# Altium footprint library eos26_motherboard_basic.PcbLib: 22 footprints (part 1 of 2)
Each footprint in its own frame and in the unit in brackets; x right, y up, seen from the top. Pads: shape width x height; smd on the part's side, far side on the other; paste and mask are expansions set on the pad; w line width, h text height; cw(c..) or ccw(c..) is an arc to the next point about the centre after c.
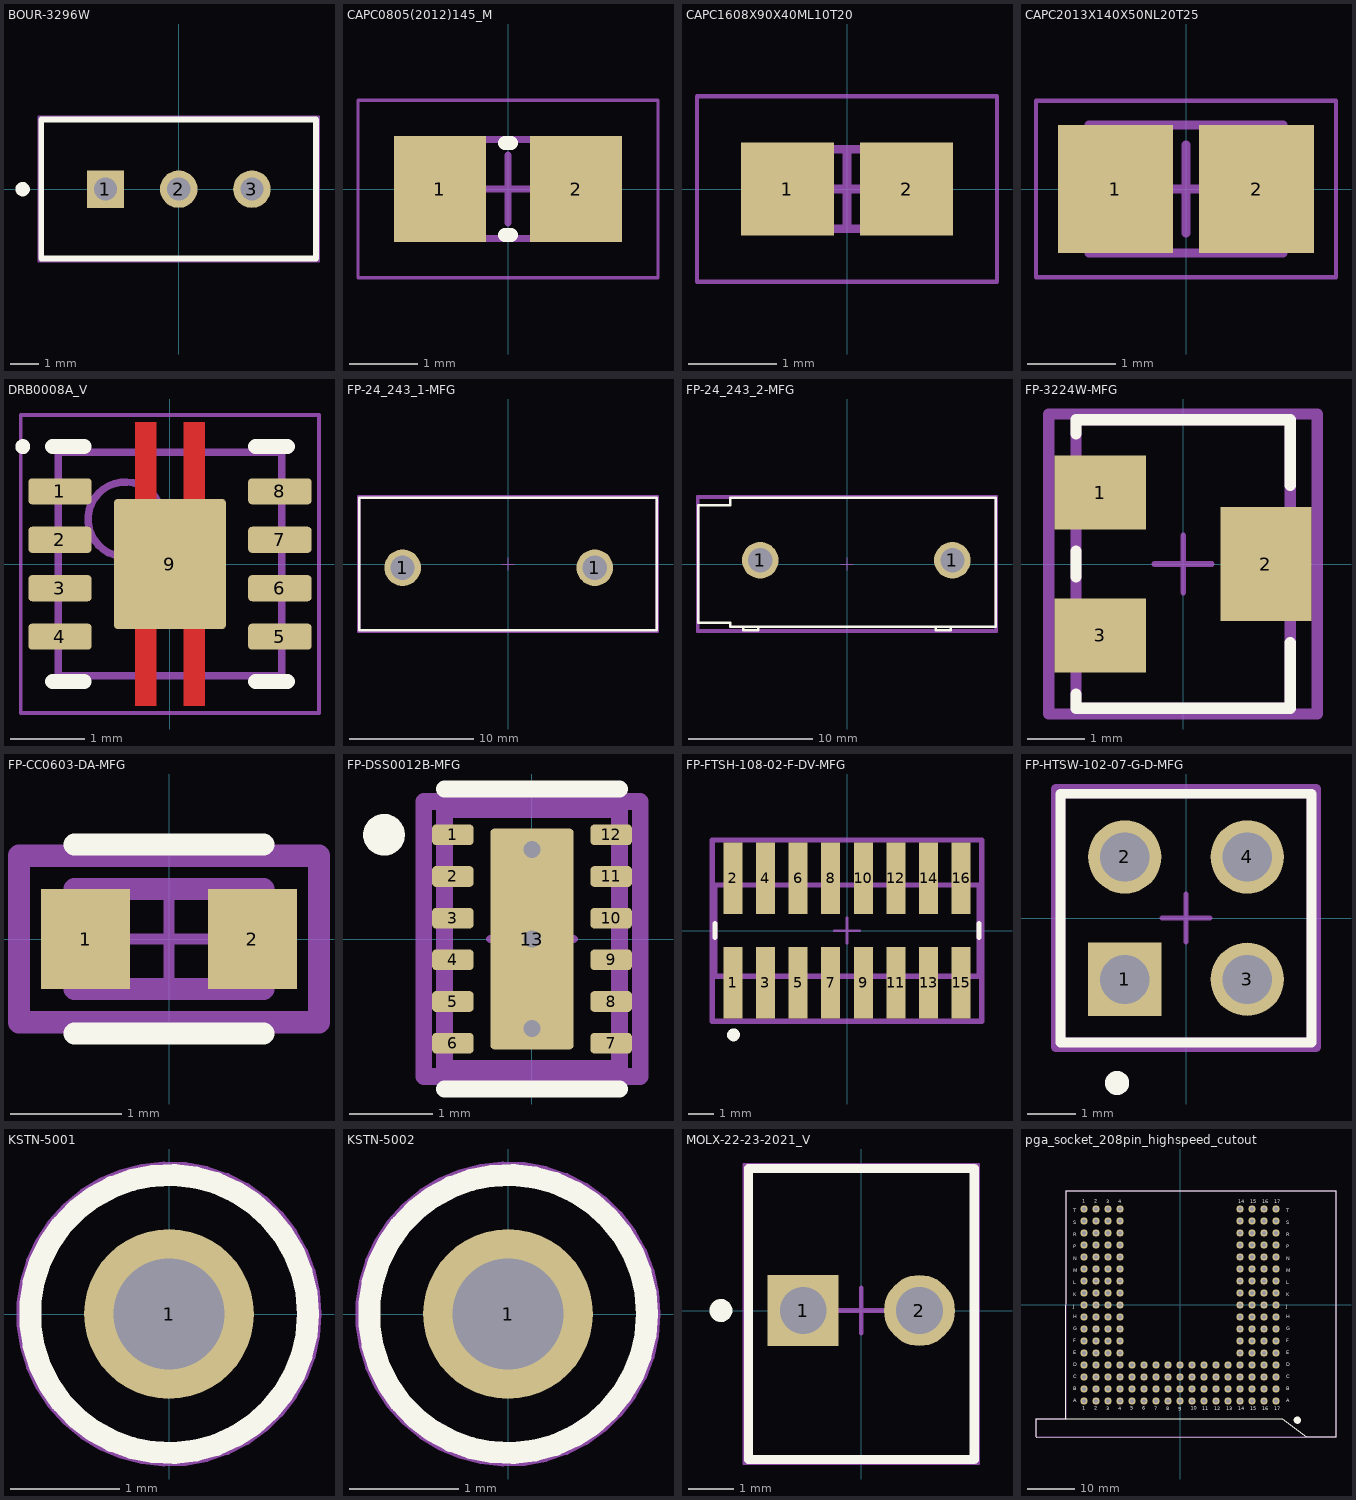
[diagram p0: the footprints below, top view; thin cyan lines are the x and y axes]

## BOUR-3296W [mm]
pads (3):
  rect 1.3x1.3 hole 0.8: 1(-2.54,0)
  round 1.3 hole 0.8: 2(0,0) 3(2.54,0)
Top Overlay:
  circle w0.25: c-5.415,0 r0.125
  lines w0.2: 4.765,-2.41 -4.765,-2.41 -4.765,2.42 4.765,2.42 4.765,-2.405
Top 3D Body:
  lines w0.1: -4.765,-2.41 4.765,-2.41 4.765,2.42 -4.765,2.42 -4.765,-2.41
Top Courtyard:
  lines w0.05: -4.865,-2.51 4.865,-2.51 4.865,2.52 -4.865,2.52 -4.865,-2.51
  lines w0.1: -0.5,0 0.5,0 ; 0,-0.5 0,0.5
3D body "3296W.stp": height 11.55, standoff -6.4, extent -4.762,-2.405 4.762,2.421

## CAPC0805(2012)145_M [mm]
pads (2):
  rect 1.35x1.55 smd: 1(-1,0) 2(1,0)
Top Overlay:
  lines w0.2: -0.05,-0.675 0.05,-0.675 ; -0.05,0.675 0.05,0.675
Top 3D Body:
  lines w0.1: -1.1,-0.725 1.1,-0.725 1.1,0.725 -1.1,0.725 -1.1,-0.725
Top Courtyard:
  lines w0.05: -2.2,-1.3 2.2,-1.3 2.2,1.3 -2.2,1.3 -2.2,-1.3
  lines w0.1: -0.5,0 0.5,0 ; 0,-0.5 0,0.5
3D body: height 1.45, standoff 0, extent 0.6,-0.725 1.1,0.725
3D body: height 1.45, standoff 0, extent -1.1,-0.725 -0.6,0.725
3D body: height 1.45, standoff 0, extent -0.6,-0.725 0.6,0.725

## CAPC1608X90X40ML10T20 [mm]
pads (2):
  rect 1.05x1.05 smd: 1(-0.675,0) 2(0.675,0)
Top 3D Body:
  lines w0.1: -0.85,-0.45 0.85,-0.45 0.85,0.45 -0.85,0.45 -0.85,-0.45
Top Courtyard:
  lines w0.05: -1.7,-1.05 1.7,-1.05 1.7,1.05 -1.7,1.05 -1.7,-1.05
  lines w0.1: -0.45,0 0.45,0 ; 0,-0.45 0,0.45
3D body "CAPC1608X09M.step": height 0.9, standoff 0, extent -0.85,-0.45 0.85,0.45

## CAPC2013X140X50NL20T25 [mm]
pads (2):
  rect 1.3x1.45 smd: 1(-0.8,0) 2(0.8,0)
Top 3D Body:
  lines w0.1: -1.1,-0.725 -1.1,0.725 1.1,0.725 1.1,-0.725 -1.1,-0.725
Top Courtyard:
  lines w0.05: -1.7,-1 -1.7,1 1.7,1 1.7,-1 -1.7,-1
  lines w0.1: -0.5,0 0.5,0 ; 0,-0.5 0,0.5
3D body: height 1.4, standoff 0, extent 0.6,-0.725 1.1,0.725
3D body: height 1.4, standoff 0, extent -0.6,-0.725 0.6,0.725
3D body: height 1.4, standoff 0, extent -1.1,-0.725 -0.6,0.725

## DRB0008A_V [mm]
pads (9):
  rrect29% 0.85x0.35 smd: 1(-1.475,0.975) 2(-1.475,0.325) 3(-1.475,-0.325) 4(-1.475,-0.975) 5(1.475,-0.975) 6(1.475,-0.325) 7(1.475,0.325) 8(1.475,0.975)
  rrect7% 1.5x1.75 smd: 9(0,0)
Top Layer:
  region: 0.185,0.875 0.185,1.9 0.465,1.9 0.465,0.875
  region: 0.185,-0.875 0.185,-1.9 0.465,-1.9 0.465,-0.875
  region: -0.185,-0.875 -0.185,-1.9 -0.465,-1.9 -0.465,-0.875
  region: -0.185,0.875 -0.185,1.9 -0.465,1.9 -0.465,0.875
Top Overlay:
  circle w0.1: c-1.975,1.575 r0.05
  lines w0.2: -1.575,-1.575 -1.15,-1.575 ; -1.575,1.575 -1.15,1.575 ; 1.15,-1.575 1.575,-1.575 ; 1.15,1.575 1.575,1.575
Top Paste:
  region: 0.185,-0.875 0.185,-1.9 0.465,-1.9 0.465,-0.875
  region: -0.185,-0.875 -0.185,-1.9 -0.465,-1.9 -0.465,-0.875
  region: 0.185,0.875 0.185,1.9 0.465,1.9 0.465,0.875
  region: -0.185,0.875 -0.185,1.9 -0.465,1.9 -0.465,0.875
Mechanical 1:
  text ".Designator" at -0.762,-0.127 h0.5
Top 3D Body:
  circle w0.1: c-0.6,0.6 r0.5
  lines w0.1: -1.5,-1.5 1.5,-1.5 1.5,1.5 -1.5,1.5 -1.5,-1.5
Top Courtyard:
  lines w0.05: -2,-2 2,-2 2,-1.675 2,1.675 2,2 -2,2 -2,1.675 -2,-1.675 -2,-2
  lines w0.1: -0.5,0 0.5,0 ; 0,-0.5 0,0.5
3D body: height 1, standoff 0, extent -1.5,-1.5 1.5,1.5

## FP-24_243_1-MFG [mm]
pads (2):
  round 2.95 hole 1.95 paste-1000 mask+0: 1(-8.5,-0.3) 1(7,-0.3)
Top Overlay:
  lines w0.2: -12,-5.35 12,-5.35 12,5.35 -12,5.35 -12,-5.35
Top Assembly:
  lines w0.2: -12.1,-5.45 12.1,-5.45 12.1,5.45 -12.1,5.45 -12.1,-5.45
  text ".Designator" at 0,0 h1
Top 3D Body:
  lines w0.2: -12,-5.35 12,-5.35 12,5.35 -12,5.35 -12,-5.35
Top Courtyard:
  lines w0.2: -12.1,-5.45 12.1,-5.45 12.1,5.45 -12.1,5.45 -12.1,-5.45
Top Component Center:
  lines w0.1: -0.5,0 0.5,0 ; 0,-0.5 0,0.5
3D body "Conn_Multicomp_24_243_1_eec.STEP": height 0.25, standoff 0, extent -12.1,-5.45 12.1,5.45

## FP-24_243_2-MFG [mm]
pads (2):
  round 2.95 hole 1.95 paste-1000 mask+0: 1(-7,0.3) 1(8.5,0.3)
Top Overlay:
  lines w0.2: -8.35,-5.05 -8.35,-5.35 -7.15,-5.35 -7.15,-5.05 ; 7.15,-5.05 7.15,-5.35 8.35,-5.35 8.35,-5.05 ; -12,-4.75 -9.4,-4.75 -9.4,-5.05 12,-5.05 12,5.35 -9.4,5.35 -9.4,4.75 -12,4.75 -12,-4.75
Top Assembly:
  lines w0.2: -12.1,-5.45 12.1,-5.45 12.1,5.45 -12.1,5.45 -12.1,-5.45
  text ".Designator" at 0,0.188 h1
Top 3D Body:
  lines w0.2: -12,-5.35 12,-5.35 12,5.35 -12,5.35 -12,-5.35
Top Courtyard:
  lines w0.2: -12.1,-5.45 12.1,-5.45 12.1,5.45 -12.1,5.45 -12.1,-5.45
Top Component Center:
  lines w0.1: -0.5,0 0.5,0 ; 0,-0.5 0,0.5
3D body "Conn_Multicomp_24_243_2_eec.STEP": height 0.25, standoff 0, extent -12.1,-5.45 12.1,5.45

## FP-3224W-MFG [mm]
pads (3):
  rect 1.6x1.3 smd paste+0 mask+0: 1(-1.45,1.25) 3(-1.45,-1.25)
  rect 1.6x2 smd paste+0 mask+0: 2(1.45,0)
Top Overlay:
  lines w0.2: -1.875,-2.275 -1.875,-2.525 1.875,-2.525 1.875,-1.375 ; -1.875,-0.225 -1.875,0.225 ; -1.875,2.275 -1.875,2.525 1.875,2.525 1.875,1.375
Top Assembly:
  lines w0.2: -2.35,-2.625 -2.35,2.625 2.35,2.625 2.35,-2.625 -2.35,-2.625
  text ".Designator" at 0,0 h1
Top 3D Body:
  lines w0.2: -1.875,-2.525 -1.875,2.525 1.875,2.525 1.875,-2.525 -1.875,-2.525
Top Courtyard:
  lines w0.2: -2.35,-2.625 -2.35,2.625 2.35,2.625 2.35,-2.625 -2.35,-2.625
Top Component Center:
  lines w0.1: -0.5,0 0.5,0 ; 0,-0.5 0,0.5
3D body "Res_Bourns_3224W-1-104E_eec.STEP": height 0.25, standoff 0, extent -2.35,-2.625 2.35,2.625

## FP-CC0603-DA-MFG [mm]
pads (2):
  rect 0.8x0.9 smd paste+0 mask+0: 1(-0.75,0) 2(0.75,0)
Top Overlay:
  lines w0.2: -0.85,-0.85 0.85,-0.85 ; -0.85,0.85 0.85,0.85
Top Assembly:
  lines w0.2: -1.35,-0.75 -1.35,0.75 1.35,0.75 1.35,-0.75 -1.35,-0.75
  text ".Designator" at 0,0.188 h1
Top 3D Body:
  lines w0.2: -0.85,-0.45 -0.85,0.45 0.85,0.45 0.85,-0.45 -0.85,-0.45
Top Courtyard:
  lines w0.2: -1.35,-0.75 -1.35,0.75 1.35,0.75 1.35,-0.75 -1.35,-0.75
Top Component Center:
  lines w0.1: -0.5,0 0.5,0 ; 0,-0.5 0,0.5
3D body "Cap_YAGEO_CC0603KRX7R9BB271_eec.STEP": height 0.9, standoff 0, extent -0.8,-0.4 0.8,0.4

## FP-DSS0012B-MFG [mm]
pads (13):
  rrect40% 0.5x0.25 smd paste+0 mask+0: 1(-0.95,1.25) 2(-0.95,0.75) 3(-0.95,0.25) 4(-0.95,-0.25) 5(-0.95,-0.75) 6(-0.95,-1.25) 7(0.95,-1.25) 8(0.95,-0.75) 9(0.95,-0.25) 10(0.95,0.25) 11(0.95,0.75) 12(0.95,1.25)
  rrect10% 1x2.65 smd paste-1000 mask+0: 13(0,0)
via 0,1.075 diameter 0.5 hole 0.2
via 0,0 diameter 0.5 hole 0.2
via 0,-1.075 diameter 0.5 hole 0.2
Top Overlay:
  circle w0.25: c-1.775,1.25 r0.125
  lines w0.2: -1.05,-1.8 1.05,-1.8 ; -1.05,1.8 1.05,1.8
Top Paste:
  region: 0.475,1.22 0.475,0.15 0.475,0.14 0.467,0.122 0.453,0.108 0.435,0.1 0.425,0.1 -0.425,0.1 -0.435,0.1 -0.453,0.108 -0.467,0.122 -0.475,0.14 -0.475,0.15 -0.475,1.22 -0.475,1.23 -0.467,1.248 -0.453,1.262 -0.435,1.27 -0.425,1.27 0.425,1.27 0.435,1.27 0.453,1.262 0.467,1.248 0.475,1.23
  region: 0.475,-1.22 0.475,-1.23 0.467,-1.248 0.453,-1.262 0.435,-1.27 0.425,-1.27 -0.425,-1.27 -0.435,-1.27 -0.453,-1.262 -0.467,-1.248 -0.475,-1.23 -0.475,-1.22 -0.475,-0.15 -0.475,-0.14 -0.467,-0.122 -0.453,-0.108 -0.435,-0.1 -0.425,-0.1 0.425,-0.1 0.435,-0.1 0.453,-0.108 0.467,-0.122 0.475,-0.14 0.475,-0.15
Top Assembly:
  lines w0.2: -1.3,-1.65 1.3,-1.65 1.3,1.65 -1.3,1.65 -1.3,-1.65
  text ".Designator" at 0,0 h1
Top 3D Body:
  lines w0.2: -1.05,-1.55 1.05,-1.55 1.05,1.55 -1.05,1.55 -1.05,-1.55
Top Courtyard:
  lines w0.2: -1.3,-1.65 1.3,-1.65 1.3,1.65 -1.3,1.65 -1.3,-1.65
Top Component Center:
  lines w0.1: -0.5,0 0.5,0 ; 0,-0.5 0,0.5
3D body "IC_Texas_Instruments_LM27762DSSR_eec.STEP": height 0.8, standoff 0, extent -1,-1.5 1,1.5

## FP-FTSH-108-02-F-DV-MFG [mm]
pads (16):
  rect 0.74x2.79 smd paste+0 mask+0: 1(-4.445,-2.035) 2(-4.445,2.035) 3(-3.175,-2.035) 4(-3.175,2.035) 5(-1.905,-2.035) 6(-1.905,2.035) 7(-0.635,-2.035) 8(-0.635,2.035) 9(0.635,-2.035) 10(0.635,2.035) 11(1.905,-2.035) 12(1.905,2.035) 13(3.175,-2.035) 14(3.175,2.035) 15(4.445,-2.035) 16(4.445,2.035)
Top Overlay:
  circle w0.25: c-4.42,-4.06 r0.125
  lines w0.2: -5.145,-0.265 -5.145,0.265 ; 5.145,-0.265 5.145,0.265
Top Assembly:
  lines w0.2: -5.245,-3.53 5.245,-3.53 5.245,3.53 -5.245,3.53 -5.245,-3.53
  text ".Designator" at 0,0.188 h1
Top 3D Body:
  lines w0.2: -5.145,-1.78 5.145,-1.78 5.145,1.78 -5.145,1.78 -5.145,-1.78
Top Courtyard:
  lines w0.2: -5.245,-3.53 5.245,-3.53 5.245,3.53 -5.245,3.53 -5.245,-3.53
Top Component Center:
  lines w0.1: -0.5,0 0.5,0 ; 0,-0.5 0,0.5
3D body "Conn_Samtec_FTSH-108-02-F-DV_eec.STEP": height 0.25, standoff 0, extent -5.245,-3.53 5.245,3.53

## FP-HTSW-102-07-G-D-MFG [mm]
pads (4):
  rect 1.52x1.52 hole 1.02 paste-1000 mask+0: 1(-1.27,-1.27)
  round 1.52 hole 1.02 paste-1000 mask+0: 2(-1.27,1.27) 3(1.27,-1.27) 4(1.27,1.27)
Top Overlay:
  circle w0.25: c-1.43,-3.42 r0.125
  lines w0.2: -2.603,-2.58 2.603,-2.58 2.603,2.58 -2.603,2.58 -2.603,-2.58
Top Assembly:
  lines w0.2: -2.703,-2.68 2.703,-2.68 2.703,2.68 -2.703,2.68 -2.703,-2.68
  text ".Designator" at 0,0.188 h1
Top 3D Body:
  lines w0.2: -2.603,-2.58 2.603,-2.58 2.603,2.58 -2.603,2.58 -2.603,-2.58
Top Courtyard:
  lines w0.2: -2.703,-2.68 2.703,-2.68 2.703,2.68 -2.703,2.68 -2.703,-2.68
Top Component Center:
  lines w0.1: -0.5,0 0.5,0 ; 0,-0.5 0,0.5
3D body "Conn_Samtec_HTSW-102-07-G-D_eec.STEP": height 0.25, standoff 0, extent -2.703,-2.68 2.703,2.68

## KSTN-5001 [mm]
pads (1):
  round 1.55 hole 1.016: 1(0,0)
Top Overlay:
  circle w0.2: c0,0 r1.27
Top 3D Body:
  circle w0.1: c0,0 r1.27
Top Courtyard:
  circle w0.05: c0,0 r1.37
  lines w0.1: -0.5,0 0.5,0 -0.5,0 ; 0,-0.5 0,0.5 0,-0.5
3D body "Keystone_5001.stp": height 4.62, standoff -3, extent -1.254,-1.247 1.246,1.253

## KSTN-5002 [mm]
pads (1):
  round 1.55 hole 1.016: 1(0,0)
Top Overlay:
  circle w0.2: c0,0 r1.27
Top 3D Body:
  circle w0.1: c0,0 r1.27
Top Courtyard:
  circle w0.05: c0,0 r1.37
  lines w0.1: -0.5,0 0.5,0 ; 0,-0.5 0,0.5
3D body "Keystone_5002.stp": height 4.62, standoff -3, extent -1.254,-1.247 1.246,1.253

## MOLX-22-23-2021_V [mm]
pads (2):
  rect 1.55x1.55 hole 1.02: 1(-1.27,0)
  round 1.55 hole 1.02: 2(1.27,0)
Top Overlay:
  circle w0.25: c-3.065,0 r0.125
  lines w0.2: -2.465,-3.251 -2.465,3.099 2.465,3.099 2.465,-3.251 -2.465,-3.251
Top 3D Body:
  lines w0.1: -2.465,-3.251 -2.465,3.099 2.465,3.099 2.465,-3.251 -2.465,-3.251
Top Courtyard:
  lines w0.05: -2.565,-3.351 2.565,-3.351 2.565,3.199 -2.565,3.199 -2.565,-3.351
  lines w0.1: -0.5,0 0.5,0 ; 0,-0.5 0,0.5
3D body "022232021.stp": height 10.66, standoff -3.56, extent -2.464,-3.251 2.464,3.099

## pga_socket_208pin_highspeed_cutout [mil]
pads (172):
  round 60 / inner round 40 / far side round 60 hole 32 mask+0: A1(-800,-800) A2(-700,-800) A3(-600,-800) A4(-500,-800) A5(-400,-800) A6(-300,-800) A7(-200,-800) A8(-100,-800) A9(0,-800) A10(100,-800) A11(200,-800) A12(300,-800) A13(400,-800) A14(500,-800) A15(600,-800) A16(700,-800) A17(800,-800) B1(-800,-700) B2(-700,-700) B3(-600,-700) B4(-500,-700) B5(-400,-700) B6(-300,-700) B7(-200,-700) B8(-100,-700) B9(0,-700) B10(100,-700) B11(200,-700) B12(300,-700) B13(400,-700) B14(500,-700) B15(600,-700) B16(700,-700) B17(800,-700) C1(-800,-600) C2(-700,-600) C3(-600,-600) C4(-500,-600) C5(-400,-600) C6(-300,-600) C7(-200,-600) C8(-100,-600) C9(0,-600) C10(100,-600) C11(200,-600) C12(300,-600) C13(400,-600) C14(500,-600) C15(600,-600) C16(700,-600) C17(800,-600) D1(-800,-500) D2(-700,-500) D3(-600,-500) D4(-500,-500) D5(-400,-500) D6(-300,-500) D7(-200,-500) D8(-100,-500) D9(0,-500) D10(100,-500) D11(200,-500) D12(300,-500) D13(400,-500) D14(500,-500) D15(600,-500) D16(700,-500) D17(800,-500) E1(-800,-400) E2(-700,-400) E3(-600,-400) E4(-500,-400) E14(500,-400) E15(600,-400) E16(700,-400) E17(800,-400) F1(-800,-300) F2(-700,-300) F3(-600,-300) F4(-500,-300) F14(500,-300) F15(600,-300) F16(700,-300) F17(800,-300) G1(-800,-200) G2(-700,-200) G3(-600,-200) G4(-500,-200) G14(500,-200) G15(600,-200) G16(700,-200) G17(800,-200) H1(-800,-100) H2(-700,-100) H3(-600,-100) H4(-500,-100) H14(500,-100) H15(600,-100) H16(700,-100) H17(800,-100) J1(-800,0) J2(-700,0) J3(-600,0) J4(-500,0) J14(500,0) J15(600,0) J16(700,0) J17(800,0) K1(-800,100) K2(-700,100) K3(-600,100) K4(-500,100) K14(500,100) K15(600,100) K16(700,100) K17(800,100) L1(-800,200) L2(-700,200) L3(-600,200) L4(-500,200) L14(500,200) L15(600,200) L16(700,200) L17(800,200) M1(-800,300) M2(-700,300) M3(-600,300) M4(-500,300) M14(500,300) M15(600,300) M16(700,300) M17(800,300) N1(-800,400) N2(-700,400) N3(-600,400) N4(-500,400) N14(500,400) N15(600,400) N16(700,400) N17(800,400) P1(-800,500) P2(-700,500) P3(-600,500) P4(-500,500) P14(500,500) P15(600,500) P16(700,500) P17(800,500) R1(-800,600) R2(-700,600) R3(-600,600) R4(-500,600) R14(500,600) R15(600,600) R16(700,600) R17(800,600) S1(-800,700) S2(-700,700) S3(-600,700) S4(-500,700) S14(500,700) S15(600,700) S16(700,700) S17(800,700) T1(-800,800) T2(-700,800) T3(-600,800) T4(-500,800) T14(500,800) T15(600,800) T16(700,800) T17(800,800)
Top Overlay:
  circle w30: c977.5,-960 r15
  lines w10: -950,-950 -1200,-950 -1200,-1100 1050,-1100 ; -950,-950 -950,950 1300,950 1300,-1100 1050,-1100 ; -950,-950 850,-950 1050,-1100
  text "B" at -888.75,-710.62 h31.25
  text "A" at -888.75,-810.62 h31.25
  text "2" at -713.75,-874.69 h31.25
  text "3" at -613.75,-875.47 h31.25
  text "1" at -813.75,-874.69 h31.25
  text "C" at -888.75,-610.62 h31.25
  text "E" at -888.75,-410.62 h31.25
  text "F" at -888.75,-310.62 h31.25
  text "D" at -888.75,-510.62 h31.25
  text "4" at -513.75,-875.47 h31.25
  text "5" at -413.75,-874.69 h31.25
  text "7" at -213.75,-878.59 h31.25
  text "8" at -113.75,-875.47 h31.25
  text "6" at -313.75,-873.12 h31.25
  text "G" at -888.75,-210.62 h31.25
  text "H" at -888.75,-110.62 h31.25
  text "J" at -888.75,-26.25 h31.25
  text "L" at -888.75,173.75 h31.25
  text "K" at -888.75,73.75 h31.25
  text "M" at -888.75,273.75 h31.25
  text "N" at -888.75,373.75 h31.25
  text "P" at -888.75,473.75 h31.25
  text "R" at -888.75,573.75 h31.25
  text "S" at -888.75,673.75 h31.25
  text "T" at -888.75,773.75 h31.25
  text "1" at -813.75,850.31 h31.25
  text "2" at -713.75,850.31 h31.25
  text "3" at -613.75,849.53 h31.25
  text "4" at -513.75,849.53 h31.25
  text "9" at -13.75,-879.38 h31.25
  text "10" at 89.38,-874.69 h31.25
  text "12" at 286.25,-877.81 h31.25
  text "13" at 386.25,-877.03 h31.25
  text "14" at 486.25,-875.47 h31.25
  text "11" at 186.25,-875.47 h31.25
  text "15" at 586.25,-875.47 h31.25
  text "16" at 686.25,-875.47 h31.25
  text "17" at 786.25,-877.81 h31.25
  text "B" at 886.25,-710.62 h31.25
  text "A" at 886.25,-810.62 h31.25
  text "C" at 886.25,-610.62 h31.25
  text "E" at 886.25,-410.62 h31.25
  text "D" at 886.25,-510.62 h31.25
  text "14" at 486.25,849.53 h31.25
  text "15" at 586.25,849.53 h31.25
  text "F" at 886.25,-310.62 h31.25
  text "G" at 886.25,-210.62 h31.25
  text "H" at 886.25,-110.62 h31.25
  text "J" at 886.25,-26.25 h31.25
  text "K" at 886.25,73.75 h31.25
  text "L" at 886.25,173.75 h31.25
  text "N" at 886.25,373.75 h31.25
  text "16" at 686.25,849.53 h31.25
  text "17" at 786.25,847.19 h31.25
  text "P" at 886.25,473.75 h31.25
  text "R" at 886.25,573.75 h31.25
  text "M" at 886.25,273.75 h31.25
  text "S" at 886.25,673.75 h31.25
  text "T" at 886.25,773.75 h31.25
Bottom Overlay:
  circle w30: c977.5,-960 r15
  text "A" at -863.75,-810.62 h31.25
  text "B" at -863.75,-710.62 h31.25
  text "1" at -788.75,-874.69 h31.25
  text "3" at -588.75,-875.47 h31.25
  text "2" at -688.75,-874.69 h31.25
  text "C" at -863.75,-610.62 h31.25
  text "D" at -863.75,-510.62 h31.25
  text "E" at -863.75,-410.62 h31.25
  text "4" at -488.75,-875.47 h31.25
  text "5" at -388.75,-874.69 h31.25
  text "7" at -188.75,-878.59 h31.25
  text "8" at -88.75,-875.47 h31.25
  text "6" at -288.75,-873.12 h31.25
  text "G" at -863.75,-210.62 h31.25
  text "H" at -863.75,-110.62 h31.25
  text "M" at -863.75,273.75 h31.25
  text "F" at -863.75,-310.62 h31.25
  text "J" at -863.75,-26.25 h31.25
  text "K" at -863.75,73.75 h31.25
  text "L" at -863.75,173.75 h31.25
  text "N" at -863.75,373.75 h31.25
  text "P" at -863.75,473.75 h31.25
  text "R" at -863.75,573.75 h31.25
  text "S" at -863.75,673.75 h31.25
  text "T" at -863.75,773.75 h31.25
  text "2" at -688.75,850.31 h31.25
  text "1" at -788.75,850.31 h31.25
  text "3" at -588.75,849.53 h31.25
  text "4" at -488.75,849.53 h31.25
  text "9" at 11.25,-879.38 h31.25
  text "11" at 211.25,-875.47 h31.25
  text "10" at 114.38,-874.69 h31.25
  text "12" at 311.25,-877.81 h31.25
  text "13" at 411.25,-877.03 h31.25
  text "14" at 511.25,-875.47 h31.25
  text "15" at 611.25,-875.47 h31.25
  text "17" at 811.25,-877.81 h31.25
  text "16" at 711.25,-875.47 h31.25
  text "A" at 911.25,-810.62 h31.25
  text "B" at 911.25,-710.62 h31.25
  text "C" at 911.25,-610.62 h31.25
  text "D" at 911.25,-510.62 h31.25
  text "E" at 911.25,-410.62 h31.25
  text "14" at 511.25,849.53 h31.25
  text "15" at 611.25,849.53 h31.25
  text "16" at 711.25,849.53 h31.25
  text "G" at 911.25,-210.62 h31.25
  text "F" at 911.25,-310.62 h31.25
  text "H" at 911.25,-110.62 h31.25
  text "J" at 911.25,-26.25 h31.25
  text "K" at 911.25,73.75 h31.25
  text "M" at 911.25,273.75 h31.25
  text "L" at 911.25,173.75 h31.25
  text "17" at 811.25,847.19 h31.25
  text "P" at 911.25,473.75 h31.25
  text "N" at 911.25,373.75 h31.25
  text "R" at 911.25,573.75 h31.25
  text "T" at 911.25,773.75 h31.25
  text "S" at 911.25,673.75 h31.25
Mechanical 1:
  lines w6: -1200,-950 -1200,-1100 1300,-1100 1300,950 -950,950 -950,-950 ; -1200,-950 -950,-950 ; -1200,-950 -950,-950